# EAGLE library part 503398-1892 (library DogSensing)
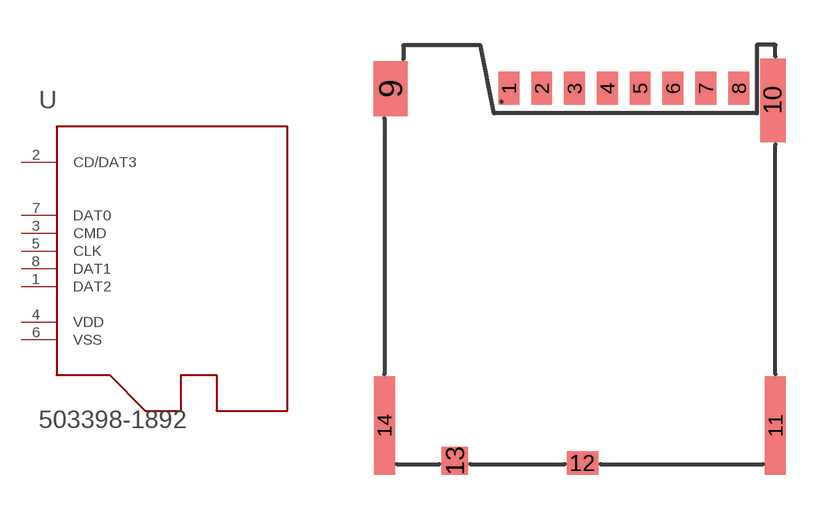
[diagram p0: symbol with the pads of 503398-1892; footprint 503398-1892]

Designator prefix -

## 503398-1892  [503398-1892]
1  DAT2
2  CD/DAT3
3  CMD
4  VDD
5  CLK
6  VSS
7  DAT0
8  DAT1

## Footprint 503398-1892 (pad centres in mm)
smd 0.7 x 1.1: 1 -1.45,0.44; 2 -0.35,0.44; 3 0.75,0.44; 4 1.85,0.44; 5 2.95,0.44; 6 4.05,0.44; 7 5.15,0.44; 8 6.26,0.44
smd 1.14 x 1.83: 9 -5.41,0.43
smd 0.86 x 2.8: 10 7.4,0.04
smd 0.7 x 3.3: 11 7.48,-10.86; 14 -5.62,-10.86
smd 1.05 x 0.78: 12 1.02,-12.12
smd 0.9 x 0.93: 13 -3.26,-12.04